# Altium footprint library QUTMS_DiodeLibrary.PcbLib: 4 footprints
Each footprint in its own frame and in the unit in brackets; x right, y up, seen from the top. Pads: shape width x height; smd on the part's side, far side on the other; paste and mask are expansions set on the pad; w line width, h text height; cw(c..) or ccw(c..) is an arc to the next point about the centre after c.
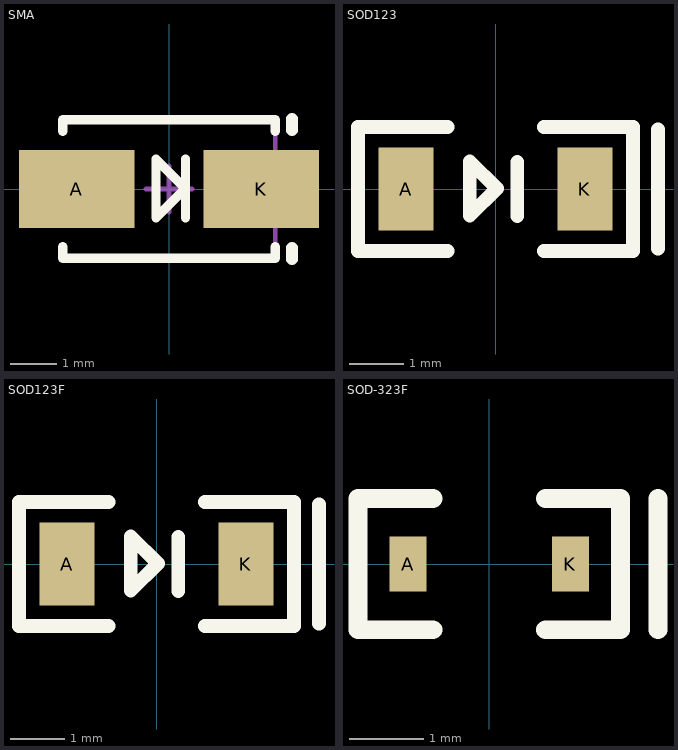
[diagram p0: the footprints below, top view; thin cyan lines are the x and y axes]

## SMA [mm]
pads (2):
  rect 2.5x1.7 smd: A(-2,0) K(2,0)
Top Overlay:
  lines w0.2: -2.3,-1.25 -2.3,-1.5 2.3,-1.5 2.3,-1.25 ; -2.3,1.25 -2.3,1.5 2.3,1.5 2.3,1.25 ; 0.355,-0.623 0.355,0.647 ; -0.28,-0.623 -0.28,0.647 0.355,0.012 -0.28,-0.623
  lines w0.254: 2.667,-1.524 2.667,-1.27 ; 2.667,1.27 2.667,1.524
Mechanical 13:
  lines w0.1: -2.3,-1.46 2.3,-1.46 2.3,1.46 -2.3,1.46
Mechanical 15:
  lines w0.1: -0.5,0 0.5,0 ; 0,-0.5 0,0.5
3D body "DIOM4326X24L.step": height 2.4, standoff 0, extent -2.52,-1.46 2.52,1.46

## SOD123 [mil]
height 43.31
pads (2):
  rect 40x60 smd: A(-65,0) K(65,0)
Top Overlay:
  lines w10: -35,-45 -100,-45 -100,45 -35,45 ; 15.75,-19.68 15.75,19.68 ; 35,-45 100,-45 100,45 35,45 ; 118.11,-43.31 118.11,43.31 ; -18.71,-19.35 -18.71,20.02 0.98,0.33 -18.71,-19.35
3D body "sod123 v4.step": height 47.24, standoff 0, extent -73.82,-33.47 73.81,33.46

## SOD123F [mil]
height 43.31
pads (2):
  rect 40x60 smd: A(-65,0) K(65,0)
Top Overlay:
  lines w10: -35,-45 -100,-45 -100,45 -35,45 ; 15.75,-19.68 15.75,19.68 ; 35,-45 100,-45 100,45 35,45 ; 118.11,-43.31 118.11,43.31 ; -18.71,-19.35 -18.71,20.02 0.98,0.33 -18.71,-19.35
3D body "SOD-123F.step": height 40.16, standoff 0, extent -74.81,-35.44 74.8,35.42

## SOD-323F [mm]
height 1.1
pads (2):
  rect 0.5x0.75 smd: A(-1.1,0) K(1.1,0)
Top Overlay:
  lines w0.254: -0.762,-0.889 -1.778,-0.889 -1.778,0.889 -0.762,0.889 ; 0.762,-0.889 1.778,-0.889 1.778,0.889 0.762,0.889 ; 2.286,-0.889 2.286,0.889
3D body "SOT323F.step": height 0.68, standoff -0.03, extent -1.25,-0.635 1.25,0.615